# Altium integrated library NSC MiscPower.IntLib: 675 symbols (part 10 of 17)
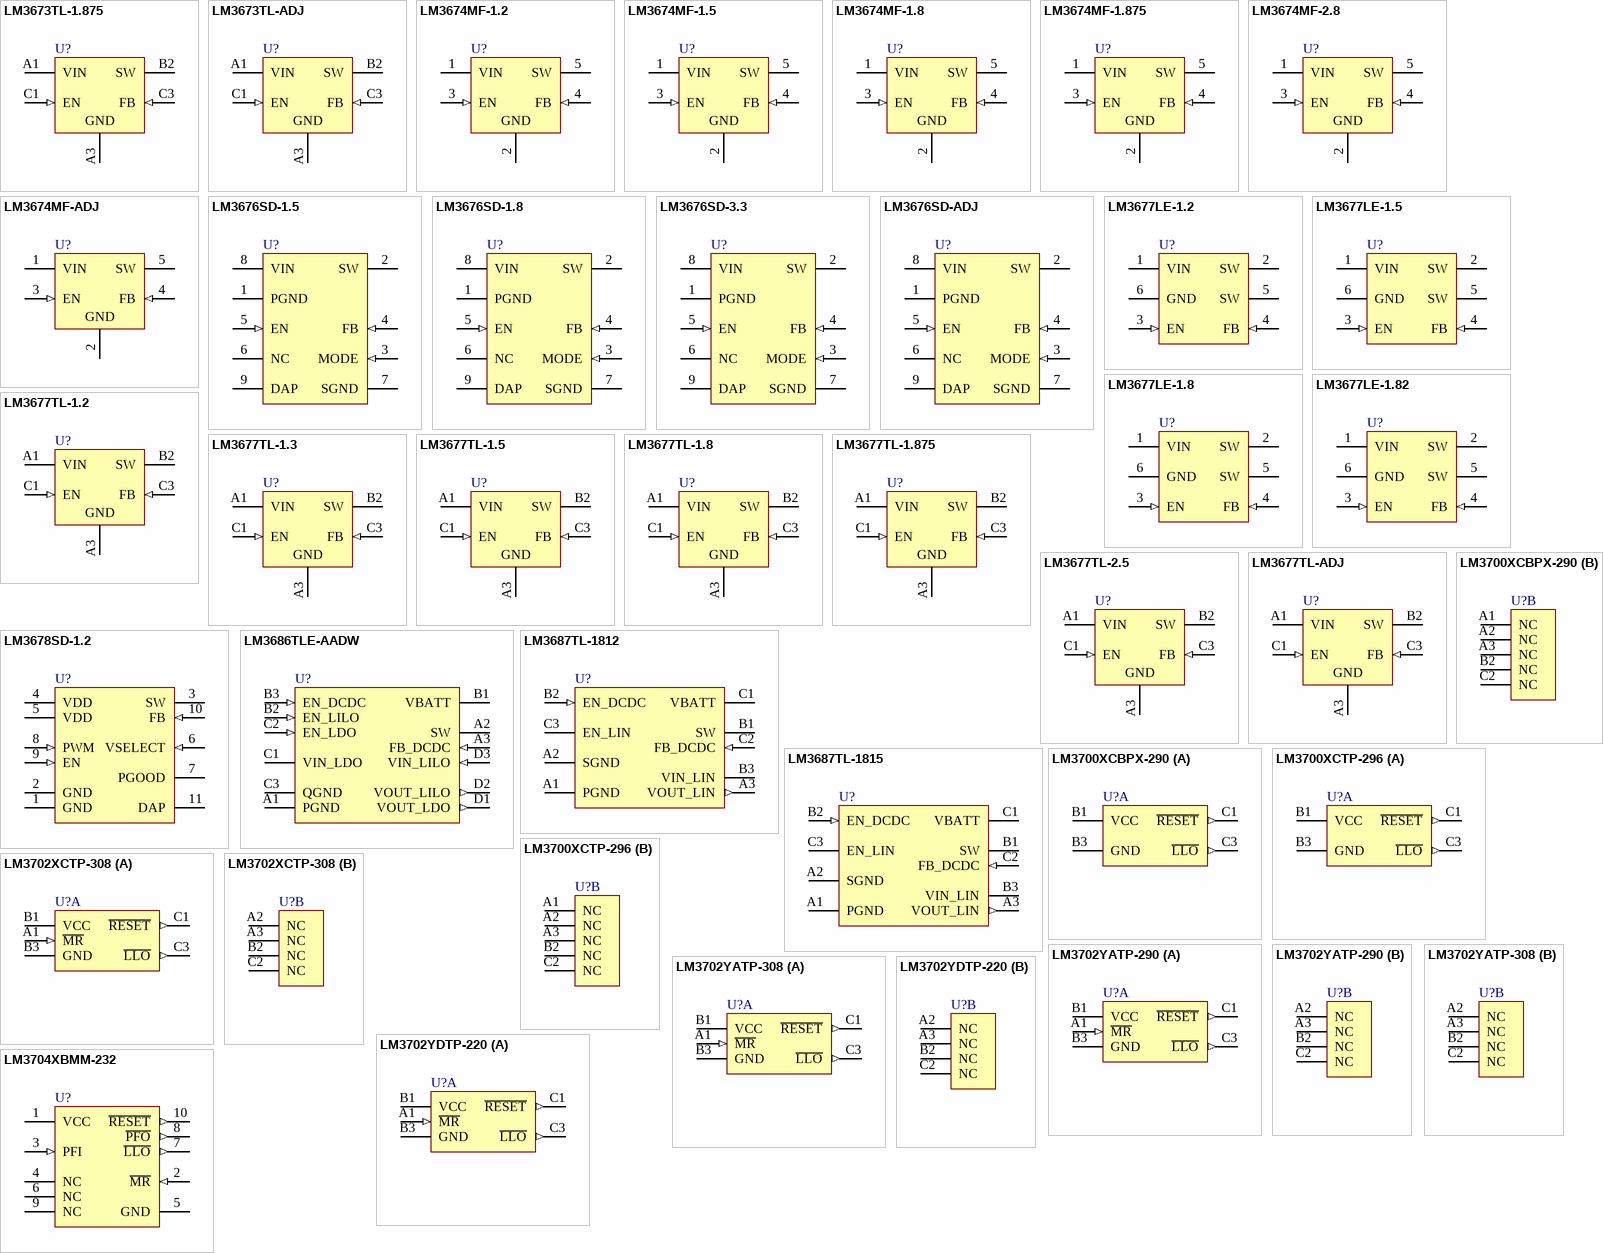
[diagram p31: symbols LM3673TL-1.875 to LM3704XBMM-232]

## LM3704XBMM-232
designator U?
Microprocessor Supervisory Circuits with Power Fail Input, Low Line Output and Manual Reset; PartNumber: LM3704XBMM-232; Manufacturer: National Semiconductor; CompType: MiscPower; PackageTopMarking: ZXTT*R66B; Published: 4-Dec-2008; DatasheetVersion: Sep-2003; PackageVersion: revB, Jul-2003; PackageReference: MUB10A; Publisher: Altium Limited; PackageDescription: Mini-SO, Molded, .118 x .118 x .034in Body, 10 Lead, .0197in Pitch; RoHS: Y; PinCount: 10; DigiKeyPartNumber: LM3704XBMM-232CT-ND; Code_JEDEC: MO-187-BA; ComponentLink1Description: LM3704 Datasheet; ComponentLink1URL: http://www.national.com/ds/LM/LM3704.pdf; ComponentLink2Description: LM3704 Web Page; ComponentLink2URL: http://www.national.com/pf/LM/LM3704.html; ComponentLink3Description: MUB10A Package Page; ComponentLink3URL: http://www.national.com/packaging/folders/mub10a.html
footprint MUB10A_N (TSSOP, 10-Leads, Body 3x3mm, Pitch 0.5mm, IPC Medium Density)
footprint MUB10A_L (TSSOP, 10-Leads, Body 3x3mm, Pitch 0.5mm, IPC High Density)
footprint MUB10A_M (TSSOP, 10-Leads, Body 3x3mm, Pitch 0.5mm, IPC Low Density)
pins: 1 VCC (power), 2 ~{MR} (in), 3 PFI (in), 4 NC, 5 GND (power), 6 NC, 7 ~{LLO} (out), 8 ~{PFO} (out), 9 NC, 10 ~{RESET} (out)

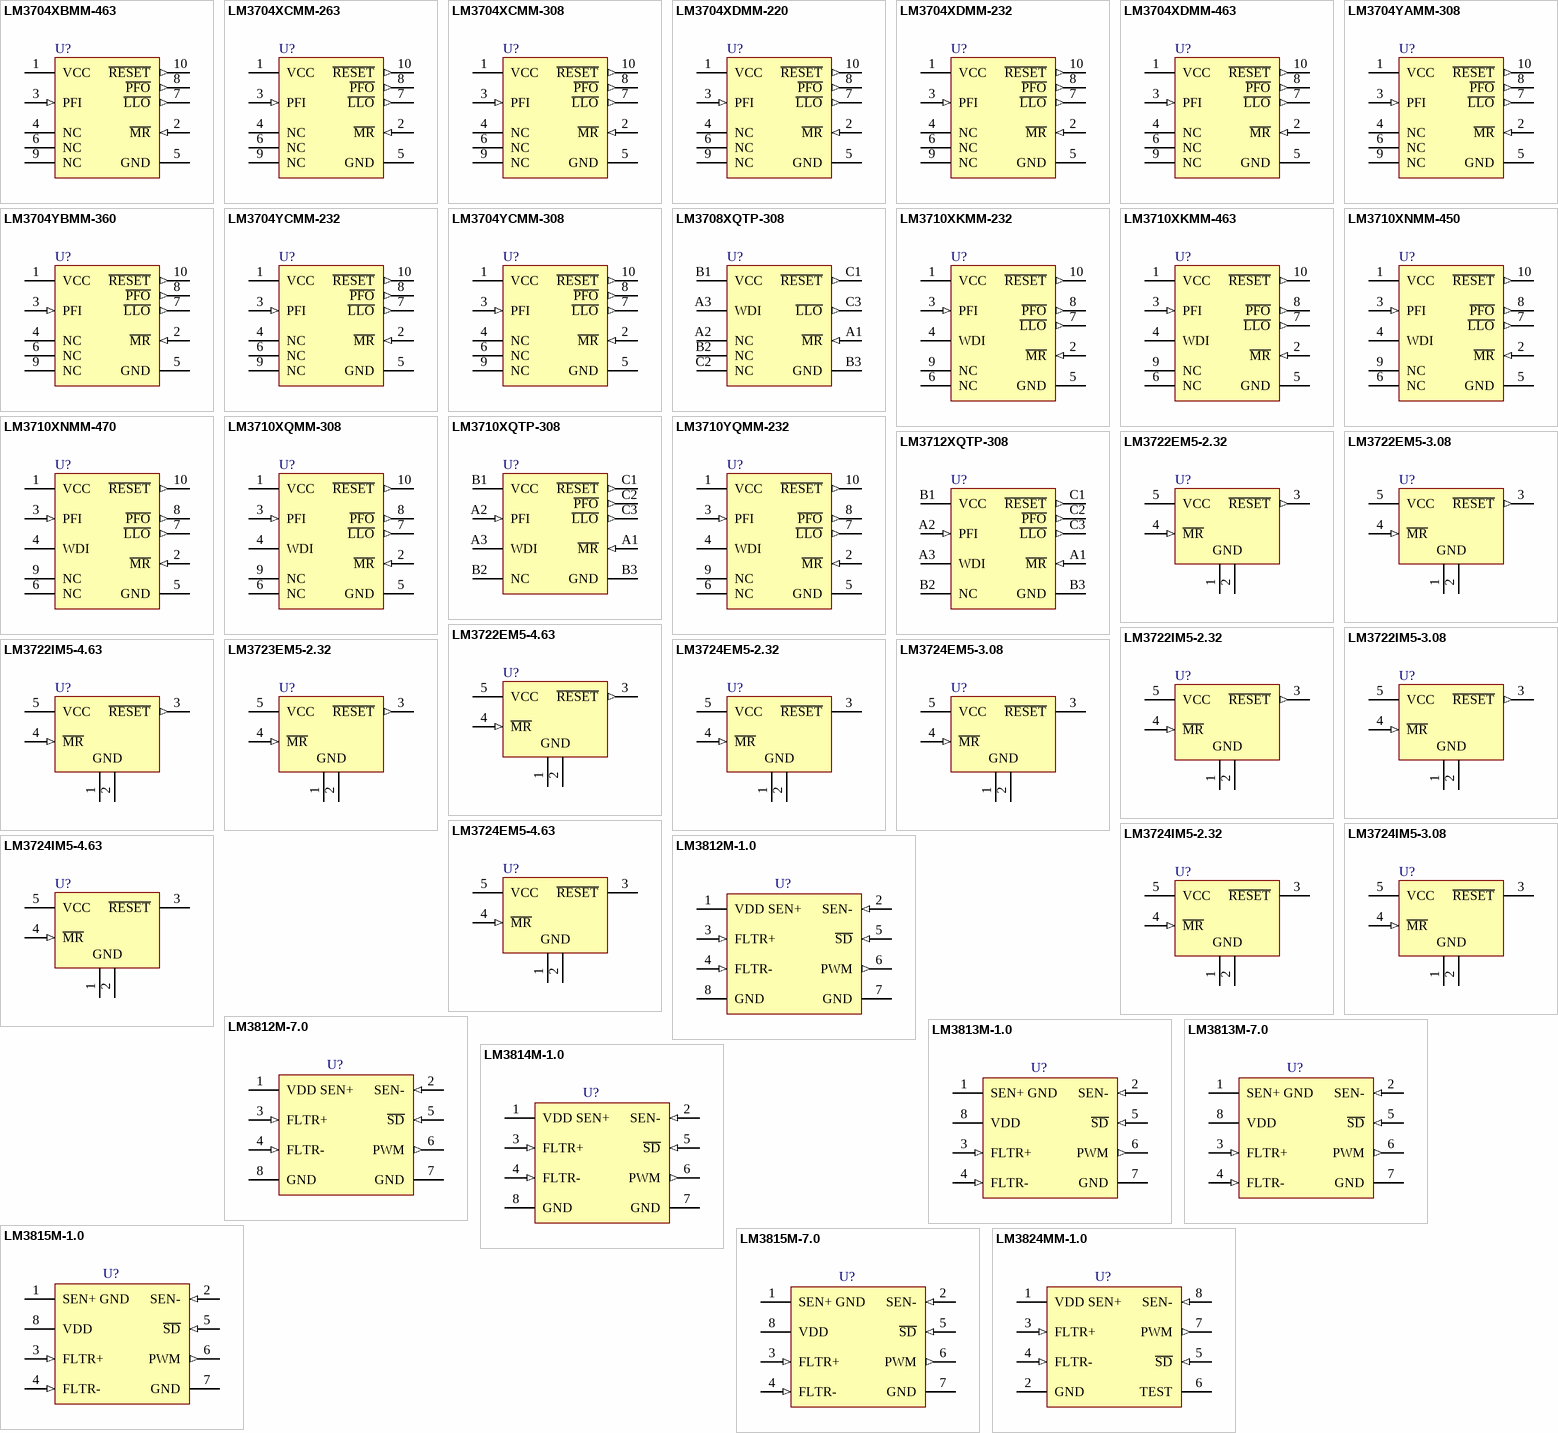
[diagram p11: symbols LM3704XBMM-463 to LM3824MM-1.0]

## LM3704XBMM-463
designator U?
Microprocessor Supervisory Circuits with Power Fail Input, Low Line Output and Manual Reset; PartNumber: LM3704XBMM-463; Manufacturer: National Semiconductor; CompType: MiscPower; PackageTopMarking: ZXTT*R27B; Published: 4-Dec-2008; DatasheetVersion: Sep-2003; PackageVersion: revB, Jul-2003; PackageReference: MUB10A; Publisher: Altium Limited; PackageDescription: Mini-SO, Molded, .118 x .118 x .034in Body, 10 Lead, .0197in Pitch; RoHS: Y; PinCount: 10; DigiKeyPartNumber: LM3704XBMM-463CT-ND; Code_JEDEC: MO-187-BA; ComponentLink1Description: LM3704 Datasheet; ComponentLink1URL: http://www.national.com/ds/LM/LM3704.pdf; ComponentLink2Description: LM3704 Web Page; ComponentLink2URL: http://www.national.com/pf/LM/LM3704.html; ComponentLink3Description: MUB10A Package Page; ComponentLink3URL: http://www.national.com/packaging/folders/mub10a.html
footprint MUB10A_N (TSSOP, 10-Leads, Body 3x3mm, Pitch 0.5mm, IPC Medium Density)
footprint MUB10A_L (TSSOP, 10-Leads, Body 3x3mm, Pitch 0.5mm, IPC High Density)
footprint MUB10A_M (TSSOP, 10-Leads, Body 3x3mm, Pitch 0.5mm, IPC Low Density)
pins: 1 VCC (power), 2 ~{MR} (in), 3 PFI (in), 4 NC, 5 GND (power), 6 NC, 7 ~{LLO} (out), 8 ~{PFO} (out), 9 NC, 10 ~{RESET} (out)

## LM3704XCMM-263
designator U?
Microprocessor Supervisory Circuits with Power Fail Input, Low Line Output and Manual Reset; PartNumber: LM3704XCMM-263; Manufacturer: National Semiconductor; CompType: MiscPower; PackageTopMarking: ZXTT*R79B; Published: 4-Dec-2008; DatasheetVersion: Sep-2003; PackageVersion: revB, Jul-2003; PackageReference: MUB10A; Publisher: Altium Limited; PackageDescription: Mini-SO, Molded, .118 x .118 x .034in Body, 10 Lead, .0197in Pitch; RoHS: Y; PinCount: 10; DigiKeyPartNumber: LM3704XCMM-263CT-ND; Code_JEDEC: MO-187-BA; ComponentLink1Description: LM3704 Datasheet; ComponentLink1URL: http://www.national.com/ds/LM/LM3704.pdf; ComponentLink2Description: LM3704 Web Page; ComponentLink2URL: http://www.national.com/pf/LM/LM3704.html; ComponentLink3Description: MUB10A Package Page; ComponentLink3URL: http://www.national.com/packaging/folders/mub10a.html
footprint MUB10A_N (TSSOP, 10-Leads, Body 3x3mm, Pitch 0.5mm, IPC Medium Density)
footprint MUB10A_L (TSSOP, 10-Leads, Body 3x3mm, Pitch 0.5mm, IPC High Density)
footprint MUB10A_M (TSSOP, 10-Leads, Body 3x3mm, Pitch 0.5mm, IPC Low Density)
pins: 1 VCC (power), 2 ~{MR} (in), 3 PFI (in), 4 NC, 5 GND (power), 6 NC, 7 ~{LLO} (out), 8 ~{PFO} (out), 9 NC, 10 ~{RESET} (out)

## LM3704XCMM-308
designator U?
Microprocessor Supervisory Circuits with Power Fail Input, Low Line Output and Manual Reset; PartNumber: LM3704XCMM-308; Manufacturer: National Semiconductor; CompType: MiscPower; PackageTopMarking: ZXTT*R35B; Published: 4-Dec-2008; DatasheetVersion: Sep-2003; PackageVersion: revB, Jul-2003; PackageReference: MUB10A; Publisher: Altium Limited; PackageDescription: Mini-SO, Molded, .118 x .118 x .034in Body, 10 Lead, .0197in Pitch; RoHS: Y; PinCount: 10; DigiKeyPartNumber: LM3704XCMM-308CT-ND; Code_JEDEC: MO-187-BA; ComponentLink1Description: LM3704 Datasheet; ComponentLink1URL: http://www.national.com/ds/LM/LM3704.pdf; ComponentLink2Description: LM3704 Web Page; ComponentLink2URL: http://www.national.com/pf/LM/LM3704.html; ComponentLink3Description: MUB10A Package Page; ComponentLink3URL: http://www.national.com/packaging/folders/mub10a.html
footprint MUB10A_N (TSSOP, 10-Leads, Body 3x3mm, Pitch 0.5mm, IPC Medium Density)
footprint MUB10A_L (TSSOP, 10-Leads, Body 3x3mm, Pitch 0.5mm, IPC High Density)
footprint MUB10A_M (TSSOP, 10-Leads, Body 3x3mm, Pitch 0.5mm, IPC Low Density)
pins: 1 VCC (power), 2 ~{MR} (in), 3 PFI (in), 4 NC, 5 GND (power), 6 NC, 7 ~{LLO} (out), 8 ~{PFO} (out), 9 NC, 10 ~{RESET} (out)

## LM3704XDMM-220
designator U?
Microprocessor Supervisory Circuits with Power Fail Input, Low Line Output and Manual Reset; PartNumber: LM3704XDMM-220; Manufacturer: National Semiconductor; CompType: MiscPower; PackageTopMarking: ZXTT*R65B; Published: 4-Dec-2008; DatasheetVersion: Sep-2003; PackageVersion: revB, Jul-2003; PackageReference: MUB10A; Publisher: Altium Limited; PackageDescription: Mini-SO, Molded, .118 x .118 x .034in Body, 10 Lead, .0197in Pitch; RoHS: Y; PinCount: 10; DigiKeyPartNumber: LM3704XDMM-220CT-ND; Code_JEDEC: MO-187-BA; ComponentLink1Description: LM3704 Datasheet; ComponentLink1URL: http://www.national.com/ds/LM/LM3704.pdf; ComponentLink2Description: LM3704 Web Page; ComponentLink2URL: http://www.national.com/pf/LM/LM3704.html; ComponentLink3Description: MUB10A Package Page; ComponentLink3URL: http://www.national.com/packaging/folders/mub10a.html
footprint MUB10A_N (TSSOP, 10-Leads, Body 3x3mm, Pitch 0.5mm, IPC Medium Density)
footprint MUB10A_L (TSSOP, 10-Leads, Body 3x3mm, Pitch 0.5mm, IPC High Density)
footprint MUB10A_M (TSSOP, 10-Leads, Body 3x3mm, Pitch 0.5mm, IPC Low Density)
pins: 1 VCC (power), 2 ~{MR} (in), 3 PFI (in), 4 NC, 5 GND (power), 6 NC, 7 ~{LLO} (out), 8 ~{PFO} (out), 9 NC, 10 ~{RESET} (out)

## LM3704XDMM-232
designator U?
Microprocessor Supervisory Circuits with Power Fail Input, Low Line Output and Manual Reset; PartNumber: LM3704XDMM-232; Manufacturer: National Semiconductor; CompType: MiscPower; PackageTopMarking: ZXTT*R67B; Published: 4-Dec-2008; DatasheetVersion: Sep-2003; PackageVersion: revB, Jul-2003; PackageReference: MUB10A; Publisher: Altium Limited; PackageDescription: Mini-SO, Molded, .118 x .118 x .034in Body, 10 Lead, .0197in Pitch; RoHS: N; PinCount: 10; DigiKeyPartNumber: LM3704XDMM-232CT-ND; Code_JEDEC: MO-187-BA; ComponentLink1Description: LM3704 Datasheet; ComponentLink1URL: http://www.national.com/ds/LM/LM3704.pdf; ComponentLink2Description: LM3704 Web Page; ComponentLink2URL: http://www.national.com/pf/LM/LM3704.html; ComponentLink3Description: MUB10A Package Page; ComponentLink3URL: http://www.national.com/packaging/folders/mub10a.html
footprint MUB10A_N (TSSOP, 10-Leads, Body 3x3mm, Pitch 0.5mm, IPC Medium Density)
footprint MUB10A_L (TSSOP, 10-Leads, Body 3x3mm, Pitch 0.5mm, IPC High Density)
footprint MUB10A_M (TSSOP, 10-Leads, Body 3x3mm, Pitch 0.5mm, IPC Low Density)
pins: 1 VCC (power), 2 ~{MR} (in), 3 PFI (in), 4 NC, 5 GND (power), 6 NC, 7 ~{LLO} (out), 8 ~{PFO} (out), 9 NC, 10 ~{RESET} (out)

## LM3704XDMM-463
designator U?
Microprocessor Supervisory Circuits with Power Fail Input, Low Line Output and Manual Reset; PartNumber: LM3704XDMM-463; Manufacturer: National Semiconductor; CompType: MiscPower; PackageTopMarking: ZXTT*R68B; Published: 4-Dec-2008; DatasheetVersion: Sep-2003; PackageVersion: revB, Jul-2003; PackageReference: MUB10A; Publisher: Altium Limited; PackageDescription: Mini-SO, Molded, .118 x .118 x .034in Body, 10 Lead, .0197in Pitch; RoHS: Y; PinCount: 10; DigiKeyPartNumber: LM3704XDMM-463CT-ND; Code_JEDEC: MO-187-BA; ComponentLink1Description: LM3704 Datasheet; ComponentLink1URL: http://www.national.com/ds/LM/LM3704.pdf; ComponentLink2Description: LM3704 Web Page; ComponentLink2URL: http://www.national.com/pf/LM/LM3704.html; ComponentLink3Description: MUB10A Package Page; ComponentLink3URL: http://www.national.com/packaging/folders/mub10a.html
footprint MUB10A_N (TSSOP, 10-Leads, Body 3x3mm, Pitch 0.5mm, IPC Medium Density)
footprint MUB10A_L (TSSOP, 10-Leads, Body 3x3mm, Pitch 0.5mm, IPC High Density)
footprint MUB10A_M (TSSOP, 10-Leads, Body 3x3mm, Pitch 0.5mm, IPC Low Density)
pins: 1 VCC (power), 2 ~{MR} (in), 3 PFI (in), 4 NC, 5 GND (power), 6 NC, 7 ~{LLO} (out), 8 ~{PFO} (out), 9 NC, 10 ~{RESET} (out)

## LM3704YAMM-308
designator U?
Microprocessor Supervisory Circuits with Power Fail Input, Low Line Output and Manual Reset; PartNumber: LM3704YAMM-308; Manufacturer: National Semiconductor; CompType: MiscPower; PackageTopMarking: ZXTT*R78B; Published: 4-Dec-2008; DatasheetVersion: Sep-2003; PackageVersion: revB, Jul-2003; PackageReference: MUB10A; Publisher: Altium Limited; PackageDescription: Mini-SO, Molded, .118 x .118 x .034in Body, 10 Lead, .0197in Pitch; RoHS: Y; PinCount: 10; DigiKeyPartNumber: LM3704YAMM-308CT-ND; Code_JEDEC: MO-187-BA; ComponentLink1Description: LM3704 Datasheet; ComponentLink1URL: http://www.national.com/ds/LM/LM3704.pdf; ComponentLink2Description: LM3704 Web Page; ComponentLink2URL: http://www.national.com/pf/LM/LM3704.html; ComponentLink3Description: MUB10A Package Page; ComponentLink3URL: http://www.national.com/packaging/folders/mub10a.html
footprint MUB10A_N (TSSOP, 10-Leads, Body 3x3mm, Pitch 0.5mm, IPC Medium Density)
footprint MUB10A_L (TSSOP, 10-Leads, Body 3x3mm, Pitch 0.5mm, IPC High Density)
footprint MUB10A_M (TSSOP, 10-Leads, Body 3x3mm, Pitch 0.5mm, IPC Low Density)
pins: 1 VCC (power), 2 ~{MR} (in), 3 PFI (in), 4 NC, 5 GND (power), 6 NC, 7 ~{LLO} (out), 8 ~{PFO} (out), 9 NC, 10 ~{RESET} (out)

## LM3704YBMM-360
designator U?
Microprocessor Supervisory Circuits with Power Fail Input, Low Line Output and Manual Reset; PartNumber: LM3704YBMM-360; Manufacturer: National Semiconductor; CompType: MiscPower; PackageTopMarking: ZXTT*R49B; Published: 4-Dec-2008; DatasheetVersion: Sep-2003; PackageVersion: revB, Jul-2003; PackageReference: MUB10A; Publisher: Altium Limited; PackageDescription: Mini-SO, Molded, .118 x .118 x .034in Body, 10 Lead, .0197in Pitch; RoHS: Y; PinCount: 10; DigiKeyPartNumber: LM3704YBMM-360CT-ND; Code_JEDEC: MO-187-BA; ComponentLink1Description: LM3704 Datasheet; ComponentLink1URL: http://www.national.com/ds/LM/LM3704.pdf; ComponentLink2Description: LM3704 Web Page; ComponentLink2URL: http://www.national.com/pf/LM/LM3704.html; ComponentLink3Description: MUB10A Package Page; ComponentLink3URL: http://www.national.com/packaging/folders/mub10a.html
footprint MUB10A_N (TSSOP, 10-Leads, Body 3x3mm, Pitch 0.5mm, IPC Medium Density)
footprint MUB10A_L (TSSOP, 10-Leads, Body 3x3mm, Pitch 0.5mm, IPC High Density)
footprint MUB10A_M (TSSOP, 10-Leads, Body 3x3mm, Pitch 0.5mm, IPC Low Density)
pins: 1 VCC (power), 2 ~{MR} (in), 3 PFI (in), 4 NC, 5 GND (power), 6 NC, 7 ~{LLO} (out), 8 ~{PFO} (out), 9 NC, 10 ~{RESET} (out)

## LM3704YCMM-232
designator U?
Microprocessor Supervisory Circuits with Power Fail Input, Low Line Output and Manual Reset; PartNumber: LM3704YCMM-232; Manufacturer: National Semiconductor; CompType: MiscPower; PackageTopMarking: ZXTT*R76B; Published: 4-Dec-2008; DatasheetVersion: Sep-2003; PackageVersion: revB, Jul-2003; PackageReference: MUB10A; Publisher: Altium Limited; PackageDescription: Mini-SO, Molded, .118 x .118 x .034in Body, 10 Lead, .0197in Pitch; RoHS: Y; PinCount: 10; DigiKeyPartNumber: LM3704YCMM-232CT-ND; Code_JEDEC: MO-187-BA; ComponentLink1Description: LM3704 Datasheet; ComponentLink1URL: http://www.national.com/ds/LM/LM3704.pdf; ComponentLink2Description: LM3704 Web Page; ComponentLink2URL: http://www.national.com/pf/LM/LM3704.html; ComponentLink3Description: MUB10A Package Page; ComponentLink3URL: http://www.national.com/packaging/folders/mub10a.html
footprint MUB10A_N (TSSOP, 10-Leads, Body 3x3mm, Pitch 0.5mm, IPC Medium Density)
footprint MUB10A_L (TSSOP, 10-Leads, Body 3x3mm, Pitch 0.5mm, IPC High Density)
footprint MUB10A_M (TSSOP, 10-Leads, Body 3x3mm, Pitch 0.5mm, IPC Low Density)
pins: 1 VCC (power), 2 ~{MR} (in), 3 PFI (in), 4 NC, 5 GND (power), 6 NC, 7 ~{LLO} (out), 8 ~{PFO} (out), 9 NC, 10 ~{RESET} (out)

## LM3704YCMM-308
designator U?
Microprocessor Supervisory Circuits with Power Fail Input, Low Line Output and Manual Reset; PartNumber: LM3704YCMM-308; Manufacturer: National Semiconductor; CompType: MiscPower; PackageTopMarking: ZXTT*R48B; Published: 4-Dec-2008; DatasheetVersion: Sep-2003; PackageVersion: revB, Jul-2003; PackageReference: MUB10A; Publisher: Altium Limited; PackageDescription: Mini-SO, Molded, .118 x .118 x .034in Body, 10 Lead, .0197in Pitch; RoHS: Y; PinCount: 10; DigiKeyPartNumber: LM3704YCMM-308CT-ND; Code_JEDEC: MO-187-BA; ComponentLink1Description: LM3704 Datasheet; ComponentLink1URL: http://www.national.com/ds/LM/LM3704.pdf; ComponentLink2Description: LM3704 Web Page; ComponentLink2URL: http://www.national.com/pf/LM/LM3704.html; ComponentLink3Description: MUB10A Package Page; ComponentLink3URL: http://www.national.com/packaging/folders/mub10a.html
footprint MUB10A_N (TSSOP, 10-Leads, Body 3x3mm, Pitch 0.5mm, IPC Medium Density)
footprint MUB10A_L (TSSOP, 10-Leads, Body 3x3mm, Pitch 0.5mm, IPC High Density)
footprint MUB10A_M (TSSOP, 10-Leads, Body 3x3mm, Pitch 0.5mm, IPC Low Density)
pins: 1 VCC (power), 2 ~{MR} (in), 3 PFI (in), 4 NC, 5 GND (power), 6 NC, 7 ~{LLO} (out), 8 ~{PFO} (out), 9 NC, 10 ~{RESET} (out)

## LM3708XQTP-308
designator U?
Microprocessor Supervisory Circuits with Low Line Output, Manual Reset and Watchdog Timer; PartNumber: LM3708XQTP-308; Manufacturer: National Semiconductor; CompType: MiscPower; PackageTopMarking: XVR*I 36; Published: 4-Dec-2008; DatasheetVersion: Jun-2002; PackageVersion: revA, Mar-2002; PackageReference: TPA09FFA; Publisher: Altium Limited; PackageDescription: Thin Micro SMD, 9 Bump, 0.5mm Pitch; RoHS: Y; PinCount: 9; DigiKeyPartNumber: LM3708XQTP-308CT-ND; Code_JEDEC: MO-211-BC; ComponentLink1Description: LM3708 Datasheet; ComponentLink1URL: http://www.national.com/ds/LM/LM3708.pdf; ComponentLink2Description: LM3708 Web Page; ComponentLink2URL: http://www.national.com/pf/LM/LM3708.html; ComponentLink3Description: TPA09FFA Package Page; ComponentLink3URL: http://www.national.com/packaging/folders/tpa09ffa.html
footprint TPA09FFA (Micro SMD, 9-Leads, Body 1.41x1.41mm, Pitch 0.5mm, NSC Recommended)
pins: A1 ~{MR} (in), A2 NC, A3 WDI, B1 VCC (power), B2 NC, B3 GND (power), C1 ~{RESET} (out), C2 NC, C3 ~{LLO} (out)

## LM3710XKMM-232
designator U?
Microprocessor Supervisory Circuits with Power Fail Input, Low Line Output, Manual Reset and Watchdog Timer; PartNumber: LM3710XKMM-232; Manufacturer: National Semiconductor; CompType: MiscPower; PackageTopMarking: ZXTT*R72B; Published: 4-Dec-2008; DatasheetVersion: Jan-2005; PackageVersion: revB, Jul-2003; PackageReference: MUB10A; Publisher: Altium Limited; PackageDescription: Mini-SO, Molded, .118 x .118 x .034in Body, 10 Lead, .0197in Pitch; RoHS: Y; PinCount: 10; DigiKeyPartNumber: LM3710XKMM-232CT-ND; Code_JEDEC: MO-187-BA; ComponentLink1Description: LM3710 Datasheet; ComponentLink1URL: http://www.national.com/ds/LM/LM3710.pdf; ComponentLink2Description: LM3710 Web Page; ComponentLink2URL: http://www.national.com/pf/LM/LM3710.html; ComponentLink3Description: MUB10A Package Page; ComponentLink3URL: http://www.national.com/packaging/folders/mub10a.html
footprint MUB10A_N (TSSOP, 10-Leads, Body 3x3mm, Pitch 0.5mm, IPC Medium Density)
footprint MUB10A_L (TSSOP, 10-Leads, Body 3x3mm, Pitch 0.5mm, IPC High Density)
footprint MUB10A_M (TSSOP, 10-Leads, Body 3x3mm, Pitch 0.5mm, IPC Low Density)
pins: 1 VCC (power), 2 ~{MR} (in), 3 PFI (in), 4 WDI, 5 GND (power), 6 NC, 7 ~{LLO} (out), 8 ~{PFO} (out), 9 NC, 10 ~{RESET} (out)

## LM3710XKMM-463
designator U?
Microprocessor Supervisory Circuits with Power Fail Input, Low Line Output, Manual Reset and Watchdog Timer; PartNumber: LM3710XKMM-463; Manufacturer: National Semiconductor; CompType: MiscPower; PackageTopMarking: ZXTT*R74B; Published: 4-Dec-2008; DatasheetVersion: Jan-2005; PackageVersion: revB, Jul-2003; PackageReference: MUB10A; Publisher: Altium Limited; PackageDescription: Mini-SO, Molded, .118 x .118 x .034in Body, 10 Lead, .0197in Pitch; RoHS: Y; PinCount: 10; DigiKeyPartNumber: LM3710XKMM-463CT-ND; Code_JEDEC: MO-187-BA; ComponentLink1Description: LM3710 Datasheet; ComponentLink1URL: http://www.national.com/ds/LM/LM3710.pdf; ComponentLink2Description: LM3710 Web Page; ComponentLink2URL: http://www.national.com/pf/LM/LM3710.html; ComponentLink3Description: MUB10A Package Page; ComponentLink3URL: http://www.national.com/packaging/folders/mub10a.html
footprint MUB10A_N (TSSOP, 10-Leads, Body 3x3mm, Pitch 0.5mm, IPC Medium Density)
footprint MUB10A_L (TSSOP, 10-Leads, Body 3x3mm, Pitch 0.5mm, IPC High Density)
footprint MUB10A_M (TSSOP, 10-Leads, Body 3x3mm, Pitch 0.5mm, IPC Low Density)
pins: 1 VCC (power), 2 ~{MR} (in), 3 PFI (in), 4 WDI, 5 GND (power), 6 NC, 7 ~{LLO} (out), 8 ~{PFO} (out), 9 NC, 10 ~{RESET} (out)

## LM3710XNMM-450
designator U?
Microprocessor Supervisory Circuits with Power Fail Input, Low Line Output, Manual Reset and Watchdog Timer; PartNumber: LM3710XNMM-450; Manufacturer: National Semiconductor; CompType: MiscPower; PackageTopMarking: ZXTT*R84B; Published: 4-Dec-2008; DatasheetVersion: Jan-2005; PackageVersion: revB, Jul-2003; PackageReference: MUB10A; Publisher: Altium Limited; PackageDescription: Mini-SO, Molded, .118 x .118 x .034in Body, 10 Lead, .0197in Pitch; RoHS: Y; PinCount: 10; DigiKeyPartNumber: LM3710XNMM-450CT-ND; Code_JEDEC: MO-187-BA; ComponentLink1Description: LM3710 Datasheet; ComponentLink1URL: http://www.national.com/ds/LM/LM3710.pdf; ComponentLink2Description: LM3710 Web Page; ComponentLink2URL: http://www.national.com/pf/LM/LM3710.html; ComponentLink3Description: MUB10A Package Page; ComponentLink3URL: http://www.national.com/packaging/folders/mub10a.html
footprint MUB10A_N (TSSOP, 10-Leads, Body 3x3mm, Pitch 0.5mm, IPC Medium Density)
footprint MUB10A_L (TSSOP, 10-Leads, Body 3x3mm, Pitch 0.5mm, IPC High Density)
footprint MUB10A_M (TSSOP, 10-Leads, Body 3x3mm, Pitch 0.5mm, IPC Low Density)
pins: 1 VCC (power), 2 ~{MR} (in), 3 PFI (in), 4 WDI, 5 GND (power), 6 NC, 7 ~{LLO} (out), 8 ~{PFO} (out), 9 NC, 10 ~{RESET} (out)

## LM3710XNMM-470
designator U?
Microprocessor Supervisory Circuits with Power Fail Input, Low Line Output, Manual Reset and Watchdog Timer; PartNumber: LM3710XNMM-470; Manufacturer: National Semiconductor; CompType: MiscPower; PackageTopMarking: ZXTT*R83B; Published: 4-Dec-2008; DatasheetVersion: Jan-2005; PackageVersion: revB, Jul-2003; PackageReference: MUB10A; Publisher: Altium Limited; PackageDescription: Mini-SO, Molded, .118 x .118 x .034in Body, 10 Lead, .0197in Pitch; RoHS: Y; PinCount: 10; DigiKeyPartNumber: LM3710XNMM-470CT-ND; Code_JEDEC: MO-187-BA; ComponentLink1Description: LM3710 Datasheet; ComponentLink1URL: http://www.national.com/ds/LM/LM3710.pdf; ComponentLink2Description: LM3710 Web Page; ComponentLink2URL: http://www.national.com/pf/LM/LM3710.html; ComponentLink3Description: MUB10A Package Page; ComponentLink3URL: http://www.national.com/packaging/folders/mub10a.html
footprint MUB10A_N (TSSOP, 10-Leads, Body 3x3mm, Pitch 0.5mm, IPC Medium Density)
footprint MUB10A_L (TSSOP, 10-Leads, Body 3x3mm, Pitch 0.5mm, IPC High Density)
footprint MUB10A_M (TSSOP, 10-Leads, Body 3x3mm, Pitch 0.5mm, IPC Low Density)
pins: 1 VCC (power), 2 ~{MR} (in), 3 PFI (in), 4 WDI, 5 GND (power), 6 NC, 7 ~{LLO} (out), 8 ~{PFO} (out), 9 NC, 10 ~{RESET} (out)

## LM3710XQMM-308
designator U?
Microprocessor Supervisory Circuits with Power Fail Input, Low Line Output, Manual Reset and Watchdog Timer; PartNumber: LM3710XQMM-308; Manufacturer: National Semiconductor; CompType: MiscPower; PackageTopMarking: ZXTT*R37B; Published: 4-Dec-2008; DatasheetVersion: Jan-2005; PackageVersion: revB, Jul-2003; PackageReference: MUB10A; Publisher: Altium Limited; PackageDescription: Mini-SO, Molded, .118 x .118 x .034in Body, 10 Lead, .0197in Pitch; RoHS: Y; PinCount: 10; DigiKeyPartNumber: LM3710XQMM-308CT-ND; Code_JEDEC: MO-187-BA; ComponentLink1Description: LM3710 Datasheet; ComponentLink1URL: http://www.national.com/ds/LM/LM3710.pdf; ComponentLink2Description: LM3710 Web Page; ComponentLink2URL: http://www.national.com/pf/LM/LM3710.html; ComponentLink3Description: MUB10A Package Page; ComponentLink3URL: http://www.national.com/packaging/folders/mub10a.html
footprint MUB10A_N (TSSOP, 10-Leads, Body 3x3mm, Pitch 0.5mm, IPC Medium Density)
footprint MUB10A_L (TSSOP, 10-Leads, Body 3x3mm, Pitch 0.5mm, IPC High Density)
footprint MUB10A_M (TSSOP, 10-Leads, Body 3x3mm, Pitch 0.5mm, IPC Low Density)
pins: 1 VCC (power), 2 ~{MR} (in), 3 PFI (in), 4 WDI, 5 GND (power), 6 NC, 7 ~{LLO} (out), 8 ~{PFO} (out), 9 NC, 10 ~{RESET} (out)

## LM3710XQTP-308
designator U?
Microprocessor Supervisory Circuits with Power Fail Input, Low Line Output, Manual Reset and Watchdog Timer; PartNumber: LM3710XQTP-308; Manufacturer: National Semiconductor; CompType: MiscPower; PackageTopMarking: XVR*I 40; Published: 4-Dec-2008; DatasheetVersion: Jan-2005; PackageVersion: revA, Mar-2002; PackageReference: TPA09FFA; Publisher: Altium Limited; PackageDescription: Thin Micro SMD, 9 Bump, 0.5mm Pitch; RoHS: Y; PinCount: 9; Code_JEDEC: MO-211-BC; ComponentLink1Description: LM3710 Datasheet; ComponentLink1URL: http://www.national.com/ds/LM/LM3710.pdf; ComponentLink2Description: LM3710 Web Page; ComponentLink2URL: http://www.national.com/pf/LM/LM3710.html; ComponentLink3Description: TPA09FFA Package Page; ComponentLink3URL: http://www.national.com/packaging/folders/tpa09ffa.html
footprint TPA09FFA (Micro SMD, 9-Leads, Body 1.41x1.41mm, Pitch 0.5mm, NSC Recommended)
pins: A1 ~{MR} (in), A2 PFI (in), A3 WDI, B1 VCC (power), B2 NC, B3 GND (power), C1 ~{RESET} (out), C2 ~{PFO} (out), C3 ~{LLO} (out)

## LM3710YQMM-232
designator U?
Microprocessor Supervisory Circuits with Power Fail Input, Low Line Output, Manual Reset and Watchdog Timer; PartNumber: LM3710YQMM-232; Manufacturer: National Semiconductor; CompType: MiscPower; PackageTopMarking: ZXTT*R77B; Published: 4-Dec-2008; DatasheetVersion: Jan-2005; PackageVersion: revB, Jul-2003; PackageReference: MUB10A; Publisher: Altium Limited; PackageDescription: Mini-SO, Molded, .118 x .118 x .034in Body, 10 Lead, .0197in Pitch; RoHS: O; PinCount: 10; DigiKeyPartNumber: LM3710YQMM-232CT-ND; Code_JEDEC: MO-187-BA; ComponentLink1Description: LM3710 Datasheet; ComponentLink1URL: http://www.national.com/ds/LM/LM3710.pdf; ComponentLink2Description: LM3710 Web Page; ComponentLink2URL: http://www.national.com/pf/LM/LM3710.html; ComponentLink3Description: MUB10A Package Page; ComponentLink3URL: http://www.national.com/packaging/folders/mub10a.html
footprint MUB10A_N (TSSOP, 10-Leads, Body 3x3mm, Pitch 0.5mm, IPC Medium Density)
footprint MUB10A_L (TSSOP, 10-Leads, Body 3x3mm, Pitch 0.5mm, IPC High Density)
footprint MUB10A_M (TSSOP, 10-Leads, Body 3x3mm, Pitch 0.5mm, IPC Low Density)
pins: 1 VCC (power), 2 ~{MR} (in), 3 PFI (in), 4 WDI, 5 GND (power), 6 NC, 7 ~{LLO} (out), 8 ~{PFO} (out), 9 NC, 10 ~{RESET} (out)

## LM3712XQTP-308
designator U?
Microprocessor Supervisory Circuits with Separate Watchdog Timer Output, Power Fail Input and Manual Reset; PartNumber: LM3712XQTP-308; Manufacturer: National Semiconductor; CompType: MiscPower; PackageTopMarking: XVR*I 41; Published: 4-Dec-2008; DatasheetVersion: Jan-2005; PackageVersion: revA, Mar-2002; PackageReference: TPA09FFA; Publisher: Altium Limited; PackageDescription: Thin Micro SMD, 9 Bump, 0.5mm Pitch; RoHS: Y; PinCount: 9; Code_JEDEC: MO-211-BC; ComponentLink1Description: LM3712 Datasheet; ComponentLink1URL: http://www.national.com/ds/LM/LM3710.pdf; ComponentLink2Description: LM3712 Web Page; ComponentLink2URL: http://www.national.com/pf/LM/LM3712.html; ComponentLink3Description: TPA09FFA Package Page; ComponentLink3URL: http://www.national.com/packaging/folders/tpa09ffa.html
footprint TPA09FFA (Micro SMD, 9-Leads, Body 1.41x1.41mm, Pitch 0.5mm, NSC Recommended)
pins: A1 ~{MR} (in), A2 PFI (in), A3 WDI, B1 VCC (power), B2 NC, B3 GND (power), C1 ~{RESET} (out), C2 ~{PFO} (out), C3 ~{LLO} (out)

## LM3722EM5-2.32
designator U?
5-Pin Microprocessor Reset Circuits; PartNumber: LM3722EM5-2.32; Manufacturer: National Semiconductor; CompType: MiscPower; PackageTopMarking: R58B*XTT; Published: 4-Dec-2008; DatasheetVersion: Jul-2007; PackageVersion: revD, Aug-2008; PackageReference: MF05A; Publisher: Altium Limited; PackageDescription: Molded SOT-23, .115 x .063 x .040 in Body, 5 Lead, .0375 in Pitch; RoHS: Y; PinCount: 5; DigiKeyPartNumber: LM3722EM5-2.32CT-ND; Code_IPC: SOT23-5; ComponentLink1Description: LM3722 Datasheet; ComponentLink1URL: http://www.national.com/ds/LM/LM3722.pdf; ComponentLink2Description: LM3722 Web Page; ComponentLink2URL: http://www.national.com/pf/LM/LM3722.html; ComponentLink3Description: MF05A Package Page; ComponentLink3URL: http://www.national.com/packaging/folders/mf05a.html
footprint MF05A_N (SOT23, 5-Leads, Body 2.9x1.6mm, Pitch 0.95mm, Lead Span 2.8mm, IPC Medium Density)
footprint MF05A_L (SOT23, 5-Leads, Body 2.9x1.6mm, Pitch 0.95mm, Lead Span 2.8mm, IPC High Density)
footprint MF05A_M (SOT23, 5-Leads, Body 2.9x1.6mm, Pitch 0.95mm, Lead Span 2.8mm, IPC Low Density)
pins: 1 GND (power), 2 GND (power), 3 ~{RESET} (out), 4 ~{MR} (in), 5 VCC (power)

## LM3722EM5-3.08
designator U?
5-Pin Microprocessor Reset Circuits; PartNumber: LM3722EM5-3.08; Manufacturer: National Semiconductor; CompType: MiscPower; PackageTopMarking: R57B*XTT; Published: 4-Dec-2008; DatasheetVersion: Jul-2007; PackageVersion: revD, Aug-2008; PackageReference: MF05A; Publisher: Altium Limited; PackageDescription: Molded SOT-23, .115 x .063 x .040 in Body, 5 Lead, .0375 in Pitch; RoHS: Y; PinCount: 5; DigiKeyPartNumber: LM3722EM5-3.08CT-ND; Code_IPC: SOT23-5; ComponentLink1Description: LM3722 Datasheet; ComponentLink1URL: http://www.national.com/ds/LM/LM3722.pdf; ComponentLink2Description: LM3722 Web Page; ComponentLink2URL: http://www.national.com/pf/LM/LM3722.html; ComponentLink3Description: MF05A Package Page; ComponentLink3URL: http://www.national.com/packaging/folders/mf05a.html
footprint MF05A_N (SOT23, 5-Leads, Body 2.9x1.6mm, Pitch 0.95mm, Lead Span 2.8mm, IPC Medium Density)
footprint MF05A_L (SOT23, 5-Leads, Body 2.9x1.6mm, Pitch 0.95mm, Lead Span 2.8mm, IPC High Density)
footprint MF05A_M (SOT23, 5-Leads, Body 2.9x1.6mm, Pitch 0.95mm, Lead Span 2.8mm, IPC Low Density)
pins: 1 GND (power), 2 GND (power), 3 ~{RESET} (out), 4 ~{MR} (in), 5 VCC (power)

## LM3722EM5-4.63
designator U?
5-Pin Microprocessor Reset Circuits; PartNumber: LM3722EM5-4.63; Manufacturer: National Semiconductor; CompType: MiscPower; PackageTopMarking: R56B*XTT; Published: 4-Dec-2008; DatasheetVersion: Jul-2007; PackageVersion: revD, Aug-2008; PackageReference: MF05A; Publisher: Altium Limited; PackageDescription: Molded SOT-23, .115 x .063 x .040 in Body, 5 Lead, .0375 in Pitch; RoHS: Y; PinCount: 5; DigiKeyPartNumber: LM3722EM5-4.63CT-ND; Code_IPC: SOT23-5; ComponentLink1Description: LM3722 Datasheet; ComponentLink1URL: http://www.national.com/ds/LM/LM3722.pdf; ComponentLink2Description: LM3722 Web Page; ComponentLink2URL: http://www.national.com/pf/LM/LM3722.html; ComponentLink3Description: MF05A Package Page; ComponentLink3URL: http://www.national.com/packaging/folders/mf05a.html
footprint MF05A_N (SOT23, 5-Leads, Body 2.9x1.6mm, Pitch 0.95mm, Lead Span 2.8mm, IPC Medium Density)
footprint MF05A_L (SOT23, 5-Leads, Body 2.9x1.6mm, Pitch 0.95mm, Lead Span 2.8mm, IPC High Density)
footprint MF05A_M (SOT23, 5-Leads, Body 2.9x1.6mm, Pitch 0.95mm, Lead Span 2.8mm, IPC Low Density)
pins: 1 GND (power), 2 GND (power), 3 ~{RESET} (out), 4 ~{MR} (in), 5 VCC (power)

## LM3722IM5-2.32
designator U?
5-Pin Microprocessor Reset Circuits; PartNumber: LM3722IM5-2.32; Manufacturer: National Semiconductor; CompType: MiscPower; PackageTopMarking: R34B*XTT; Published: 4-Dec-2008; DatasheetVersion: Jul-2007; PackageVersion: revD, Aug-2008; PackageReference: MF05A; Publisher: Altium Limited; PackageDescription: Molded SOT-23, .115 x .063 x .040 in Body, 5 Lead, .0375 in Pitch; RoHS: Y; PinCount: 5; DigiKeyPartNumber: LM3722IM5-2.32CT-ND; Code_IPC: SOT23-5; ComponentLink1Description: LM3722 Datasheet; ComponentLink1URL: http://www.national.com/ds/LM/LM3722.pdf; ComponentLink2Description: LM3722 Web Page; ComponentLink2URL: http://www.national.com/pf/LM/LM3722.html; ComponentLink3Description: MF05A Package Page; ComponentLink3URL: http://www.national.com/packaging/folders/mf05a.html
footprint MF05A_N (SOT23, 5-Leads, Body 2.9x1.6mm, Pitch 0.95mm, Lead Span 2.8mm, IPC Medium Density)
footprint MF05A_L (SOT23, 5-Leads, Body 2.9x1.6mm, Pitch 0.95mm, Lead Span 2.8mm, IPC High Density)
footprint MF05A_M (SOT23, 5-Leads, Body 2.9x1.6mm, Pitch 0.95mm, Lead Span 2.8mm, IPC Low Density)
pins: 1 GND (power), 2 GND (power), 3 ~{RESET} (out), 4 ~{MR} (in), 5 VCC (power)

## LM3722IM5-3.08
designator U?
5-Pin Microprocessor Reset Circuits; PartNumber: LM3722IM5-3.08; Manufacturer: National Semiconductor; CompType: MiscPower; PackageTopMarking: R41B*XTT; Published: 4-Dec-2008; DatasheetVersion: Jul-2007; PackageVersion: revD, Aug-2008; PackageReference: MF05A; Publisher: Altium Limited; PackageDescription: Molded SOT-23, .115 x .063 x .040 in Body, 5 Lead, .0375 in Pitch; RoHS: Y; PinCount: 5; DigiKeyPartNumber: LM3722IM5-3.08CT-ND; Code_IPC: SOT23-5; ComponentLink1Description: LM3722 Datasheet; ComponentLink1URL: http://www.national.com/ds/LM/LM3722.pdf; ComponentLink2Description: LM3722 Web Page; ComponentLink2URL: http://www.national.com/pf/LM/LM3722.html; ComponentLink3Description: MF05A Package Page; ComponentLink3URL: http://www.national.com/packaging/folders/mf05a.html
footprint MF05A_N (SOT23, 5-Leads, Body 2.9x1.6mm, Pitch 0.95mm, Lead Span 2.8mm, IPC Medium Density)
footprint MF05A_L (SOT23, 5-Leads, Body 2.9x1.6mm, Pitch 0.95mm, Lead Span 2.8mm, IPC High Density)
footprint MF05A_M (SOT23, 5-Leads, Body 2.9x1.6mm, Pitch 0.95mm, Lead Span 2.8mm, IPC Low Density)
pins: 1 GND (power), 2 GND (power), 3 ~{RESET} (out), 4 ~{MR} (in), 5 VCC (power)

## LM3722IM5-4.63
designator U?
5-Pin Microprocessor Reset Circuits; PartNumber: LM3722IM5-4.63; Manufacturer: National Semiconductor; CompType: MiscPower; PackageTopMarking: R43B*XTT; Published: 4-Dec-2008; DatasheetVersion: Jul-2007; PackageVersion: revD, Aug-2008; PackageReference: MF05A; Publisher: Altium Limited; PackageDescription: Molded SOT-23, .115 x .063 x .040 in Body, 5 Lead, .0375 in Pitch; RoHS: Y; PinCount: 5; DigiKeyPartNumber: LM3722IM5-4.63CT-ND; Code_IPC: SOT23-5; ComponentLink1Description: LM3722 Datasheet; ComponentLink1URL: http://www.national.com/ds/LM/LM3722.pdf; ComponentLink2Description: LM3722 Web Page; ComponentLink2URL: http://www.national.com/pf/LM/LM3722.html; ComponentLink3Description: MF05A Package Page; ComponentLink3URL: http://www.national.com/packaging/folders/mf05a.html
footprint MF05A_N (SOT23, 5-Leads, Body 2.9x1.6mm, Pitch 0.95mm, Lead Span 2.8mm, IPC Medium Density)
footprint MF05A_L (SOT23, 5-Leads, Body 2.9x1.6mm, Pitch 0.95mm, Lead Span 2.8mm, IPC High Density)
footprint MF05A_M (SOT23, 5-Leads, Body 2.9x1.6mm, Pitch 0.95mm, Lead Span 2.8mm, IPC Low Density)
pins: 1 GND (power), 2 GND (power), 3 ~{RESET} (out), 4 ~{MR} (in), 5 VCC (power)

## LM3723EM5-2.32
designator U?
5-Pin Microprocessor Reset Circuits; PartNumber: LM3723EM5-2.32; Manufacturer: National Semiconductor; CompType: MiscPower; PackageTopMarking: R61B*XTT; Published: 4-Dec-2008; DatasheetVersion: Jul-2007; PackageVersion: revD, Aug-2008; PackageReference: MF05A; Publisher: Altium Limited; PackageDescription: Molded SOT-23, .115 x .063 x .040 in Body, 5 Lead, .0375 in Pitch; RoHS: Y; PinCount: 5; DigiKeyPartNumber: LM3723EM5-2.32CT-ND; Code_IPC: SOT23-5; ComponentLink1Description: LM3723 Datasheet; ComponentLink1URL: http://www.national.com/ds/LM/LM3723.pdf; ComponentLink2Description: LM3723 Web Page; ComponentLink2URL: http://www.national.com/pf/LM/LM3723.html; ComponentLink3Description: MF05A Package Page; ComponentLink3URL: http://www.national.com/packaging/folders/mf05a.html
footprint MF05A_N (SOT23, 5-Leads, Body 2.9x1.6mm, Pitch 0.95mm, Lead Span 2.8mm, IPC Medium Density)
footprint MF05A_L (SOT23, 5-Leads, Body 2.9x1.6mm, Pitch 0.95mm, Lead Span 2.8mm, IPC High Density)
footprint MF05A_M (SOT23, 5-Leads, Body 2.9x1.6mm, Pitch 0.95mm, Lead Span 2.8mm, IPC Low Density)
pins: 1 GND (power), 2 GND (power), 3 ~{RESET} (out), 4 ~{MR} (in), 5 VCC (power)

## LM3724EM5-2.32
designator U?
5-Pin Microprocessor Reset Circuits; PartNumber: LM3724EM5-2.32; Manufacturer: National Semiconductor; CompType: MiscPower; PackageTopMarking: R64B*XTT; Published: 4-Dec-2008; DatasheetVersion: Jul-2007; PackageVersion: revD, Aug-2008; PackageReference: MF05A; Publisher: Altium Limited; PackageDescription: Molded SOT-23, .115 x .063 x .040 in Body, 5 Lead, .0375 in Pitch; RoHS: Y; PinCount: 5; DigiKeyPartNumber: LM3724EM5-2.32CT-ND; Code_IPC: SOT23-5; ComponentLink1Description: LM3724 Datasheet; ComponentLink1URL: http://www.national.com/ds/LM/LM3724.pdf; ComponentLink2Description: LM3724 Web Page; ComponentLink2URL: http://www.national.com/pf/LM/LM3724.html; ComponentLink3Description: MF05A Package Page; ComponentLink3URL: http://www.national.com/packaging/folders/mf05a.html
footprint MF05A_N (SOT23, 5-Leads, Body 2.9x1.6mm, Pitch 0.95mm, Lead Span 2.8mm, IPC Medium Density)
footprint MF05A_L (SOT23, 5-Leads, Body 2.9x1.6mm, Pitch 0.95mm, Lead Span 2.8mm, IPC High Density)
footprint MF05A_M (SOT23, 5-Leads, Body 2.9x1.6mm, Pitch 0.95mm, Lead Span 2.8mm, IPC Low Density)
pins: 1 GND (power), 2 GND (power), 3 ~{RESET} (oc), 4 ~{MR} (in), 5 VCC (power)

## LM3724EM5-3.08
designator U?
5-Pin Microprocessor Reset Circuits; PartNumber: LM3724EM5-3.08; Manufacturer: National Semiconductor; CompType: MiscPower; PackageTopMarking: R63B*XTT; Published: 4-Dec-2008; DatasheetVersion: Jul-2007; PackageVersion: revD, Aug-2008; PackageReference: MF05A; Publisher: Altium Limited; PackageDescription: Molded SOT-23, .115 x .063 x .040 in Body, 5 Lead, .0375 in Pitch; RoHS: Y; PinCount: 5; DigiKeyPartNumber: LM3724EM5-3.08CT-ND; Code_IPC: SOT23-5; ComponentLink1Description: LM3724 Datasheet; ComponentLink1URL: http://www.national.com/ds/LM/LM3724.pdf; ComponentLink2Description: LM3724 Web Page; ComponentLink2URL: http://www.national.com/pf/LM/LM3724.html; ComponentLink3Description: MF05A Package Page; ComponentLink3URL: http://www.national.com/packaging/folders/mf05a.html
footprint MF05A_N (SOT23, 5-Leads, Body 2.9x1.6mm, Pitch 0.95mm, Lead Span 2.8mm, IPC Medium Density)
footprint MF05A_L (SOT23, 5-Leads, Body 2.9x1.6mm, Pitch 0.95mm, Lead Span 2.8mm, IPC High Density)
footprint MF05A_M (SOT23, 5-Leads, Body 2.9x1.6mm, Pitch 0.95mm, Lead Span 2.8mm, IPC Low Density)
pins: 1 GND (power), 2 GND (power), 3 ~{RESET} (oc), 4 ~{MR} (in), 5 VCC (power)

## LM3724EM5-4.63
designator U?
5-Pin Microprocessor Reset Circuits; PartNumber: LM3724EM5-4.63; Manufacturer: National Semiconductor; CompType: MiscPower; PackageTopMarking: R62B*XTT; Published: 4-Dec-2008; DatasheetVersion: Jul-2007; PackageVersion: revD, Aug-2008; PackageReference: MF05A; Publisher: Altium Limited; PackageDescription: Molded SOT-23, .115 x .063 x .040 in Body, 5 Lead, .0375 in Pitch; RoHS: Y; PinCount: 5; DigiKeyPartNumber: LM3724EM5-4.63CT-ND; Code_IPC: SOT23-5; ComponentLink1Description: LM3724 Datasheet; ComponentLink1URL: http://www.national.com/ds/LM/LM3724.pdf; ComponentLink2Description: LM3724 Web Page; ComponentLink2URL: http://www.national.com/pf/LM/LM3724.html; ComponentLink3Description: MF05A Package Page; ComponentLink3URL: http://www.national.com/packaging/folders/mf05a.html
footprint MF05A_N (SOT23, 5-Leads, Body 2.9x1.6mm, Pitch 0.95mm, Lead Span 2.8mm, IPC Medium Density)
footprint MF05A_L (SOT23, 5-Leads, Body 2.9x1.6mm, Pitch 0.95mm, Lead Span 2.8mm, IPC High Density)
footprint MF05A_M (SOT23, 5-Leads, Body 2.9x1.6mm, Pitch 0.95mm, Lead Span 2.8mm, IPC Low Density)
pins: 1 GND (power), 2 GND (power), 3 ~{RESET} (oc), 4 ~{MR} (in), 5 VCC (power)

## LM3724IM5-2.32
designator U?
5-Pin Microprocessor Reset Circuits; PartNumber: LM3724IM5-2.32; Manufacturer: National Semiconductor; CompType: MiscPower; PackageTopMarking: R50B*XTT; Published: 4-Dec-2008; DatasheetVersion: Jul-2007; PackageVersion: revD, Aug-2008; PackageReference: MF05A; Publisher: Altium Limited; PackageDescription: Molded SOT-23, .115 x .063 x .040 in Body, 5 Lead, .0375 in Pitch; RoHS: Y; PinCount: 5; DigiKeyPartNumber: LM3724IM5-2.32CT-ND; Code_IPC: SOT23-5; ComponentLink1Description: LM3724 Datasheet; ComponentLink1URL: http://www.national.com/ds/LM/LM3724.pdf; ComponentLink2Description: LM3724 Web Page; ComponentLink2URL: http://www.national.com/pf/LM/LM3724.html; ComponentLink3Description: MF05A Package Page; ComponentLink3URL: http://www.national.com/packaging/folders/mf05a.html
footprint MF05A_N (SOT23, 5-Leads, Body 2.9x1.6mm, Pitch 0.95mm, Lead Span 2.8mm, IPC Medium Density)
footprint MF05A_L (SOT23, 5-Leads, Body 2.9x1.6mm, Pitch 0.95mm, Lead Span 2.8mm, IPC High Density)
footprint MF05A_M (SOT23, 5-Leads, Body 2.9x1.6mm, Pitch 0.95mm, Lead Span 2.8mm, IPC Low Density)
pins: 1 GND (power), 2 GND (power), 3 ~{RESET} (oc), 4 ~{MR} (in), 5 VCC (power)

## LM3724IM5-3.08
designator U?
5-Pin Microprocessor Reset Circuits; PartNumber: LM3724IM5-3.08; Manufacturer: National Semiconductor; CompType: MiscPower; PackageTopMarking: R53B*XTT; Published: 4-Dec-2008; DatasheetVersion: Jul-2007; PackageVersion: revD, Aug-2008; PackageReference: MF05A; Publisher: Altium Limited; PackageDescription: Molded SOT-23, .115 x .063 x .040 in Body, 5 Lead, .0375 in Pitch; RoHS: Y; PinCount: 5; DigiKeyPartNumber: LM3724IM5-3.08CT-ND; Code_IPC: SOT23-5; ComponentLink1Description: LM3724 Datasheet; ComponentLink1URL: http://www.national.com/ds/LM/LM3724.pdf; ComponentLink2Description: LM3724 Web Page; ComponentLink2URL: http://www.national.com/pf/LM/LM3724.html; ComponentLink3Description: MF05A Package Page; ComponentLink3URL: http://www.national.com/packaging/folders/mf05a.html
footprint MF05A_N (SOT23, 5-Leads, Body 2.9x1.6mm, Pitch 0.95mm, Lead Span 2.8mm, IPC Medium Density)
footprint MF05A_L (SOT23, 5-Leads, Body 2.9x1.6mm, Pitch 0.95mm, Lead Span 2.8mm, IPC High Density)
footprint MF05A_M (SOT23, 5-Leads, Body 2.9x1.6mm, Pitch 0.95mm, Lead Span 2.8mm, IPC Low Density)
pins: 1 GND (power), 2 GND (power), 3 ~{RESET} (oc), 4 ~{MR} (in), 5 VCC (power)

## LM3724IM5-4.63
designator U?
5-Pin Microprocessor Reset Circuits; PartNumber: LM3724IM5-4.63; Manufacturer: National Semiconductor; CompType: MiscPower; PackageTopMarking: R55B*XTT; Published: 4-Dec-2008; DatasheetVersion: Jul-2007; PackageVersion: revD, Aug-2008; PackageReference: MF05A; Publisher: Altium Limited; PackageDescription: Molded SOT-23, .115 x .063 x .040 in Body, 5 Lead, .0375 in Pitch; RoHS: Y; PinCount: 5; DigiKeyPartNumber: LM3724IM5-4.63CT-ND; Code_IPC: SOT23-5; ComponentLink1Description: LM3724 Datasheet; ComponentLink1URL: http://www.national.com/ds/LM/LM3724.pdf; ComponentLink2Description: LM3724 Web Page; ComponentLink2URL: http://www.national.com/pf/LM/LM3724.html; ComponentLink3Description: MF05A Package Page; ComponentLink3URL: http://www.national.com/packaging/folders/mf05a.html
footprint MF05A_N (SOT23, 5-Leads, Body 2.9x1.6mm, Pitch 0.95mm, Lead Span 2.8mm, IPC Medium Density)
footprint MF05A_L (SOT23, 5-Leads, Body 2.9x1.6mm, Pitch 0.95mm, Lead Span 2.8mm, IPC High Density)
footprint MF05A_M (SOT23, 5-Leads, Body 2.9x1.6mm, Pitch 0.95mm, Lead Span 2.8mm, IPC Low Density)
pins: 1 GND (power), 2 GND (power), 3 ~{RESET} (oc), 4 ~{MR} (in), 5 VCC (power)

## LM3812M-1.0
designator U?
Precision Current Gauge IC with Ultra-Low Loss Sense Element and PWM Output, for High-Side Sensing; PartNumber: LM3812M-1.0; Manufacturer: National Semiconductor; CompType: MiscPower; PackageTopMarking: NSZXTT*3812*M-1.0; Published: 4-Dec-2008; DatasheetVersion: Feb-2005; PackageVersion: revL, Sep-2006; PackageReference: M08A; Publisher: Altium Limited; PackageDescription: SOIC Narrow, 4.9 x 3.9 x 1.45mm, 8 Lead, 1.27mm Pitch; RoHS: Y; PinCount: 8; DigiKeyPartNumber: LM3812M-1.0-ND; Code_JEDEC: MS-012-AA; Code_IPC: SOIC127P600-8; ComponentLink1Description: LM3812 Datasheet; ComponentLink1URL: http://www.national.com/ds/LM/LM3812.pdf; ComponentLink2Description: LM3812 Web Page; ComponentLink2URL: http://www.national.com/pf/LM/LM3812.html; ComponentLink3Description: M08A Package Page; ComponentLink3URL: http://www.national.com/packaging/folders/m08a.html
footprint M08A_N (SOIC, 8-Leads, Body 4.9x3.9mm, Pitch 1.27mm, IPC Medium Density)
footprint M08A_L (SOIC, 8-Leads, Body 4.9x3.9mm, Pitch 1.27mm, IPC High Density)
footprint M08A_M (SOIC, 8-Leads, Body 4.9x3.9mm, Pitch 1.27mm, IPC Low Density)
pins: 1 VDD SEN+ (power), 2 SEN- (in), 3 FLTR+ (in), 4 FLTR- (in), 5 ~{SD} (in), 6 PWM (out), 7 GND (power), 8 GND (power)

## LM3812M-7.0
designator U?
Precision Current Gauge IC with Ultra-Low Loss Sense Element and PWM Output, for High-Side Sensing; PartNumber: LM3812M-7.0; Manufacturer: National Semiconductor; CompType: MiscPower; PackageTopMarking: NSZXTT*3812*M-7.0; Published: 4-Dec-2008; DatasheetVersion: Feb-2005; PackageVersion: revL, Sep-2006; PackageReference: M08A; Publisher: Altium Limited; PackageDescription: SOIC Narrow, 4.9 x 3.9 x 1.45mm, 8 Lead, 1.27mm Pitch; RoHS: Y; PinCount: 8; DigiKeyPartNumber: LM3812M-7.0-ND; Code_JEDEC: MS-012-AA; Code_IPC: SOIC127P600-8; ComponentLink1Description: LM3812 Datasheet; ComponentLink1URL: http://www.national.com/ds/LM/LM3812.pdf; ComponentLink2Description: LM3812 Web Page; ComponentLink2URL: http://www.national.com/pf/LM/LM3812.html; ComponentLink3Description: M08A Package Page; ComponentLink3URL: http://www.national.com/packaging/folders/m08a.html
footprint M08A_N (SOIC, 8-Leads, Body 4.9x3.9mm, Pitch 1.27mm, IPC Medium Density)
footprint M08A_L (SOIC, 8-Leads, Body 4.9x3.9mm, Pitch 1.27mm, IPC High Density)
footprint M08A_M (SOIC, 8-Leads, Body 4.9x3.9mm, Pitch 1.27mm, IPC Low Density)
pins: 1 VDD SEN+ (power), 2 SEN- (in), 3 FLTR+ (in), 4 FLTR- (in), 5 ~{SD} (in), 6 PWM (out), 7 GND (power), 8 GND (power)

## LM3813M-1.0
designator U?
Precision Current Gauge IC with Ultra Low Loss Sense Element and PWM Output, for Low-Side Sensing; PartNumber: LM3813M-1.0; Manufacturer: National Semiconductor; CompType: MiscPower; PackageTopMarking: NSZXTT*3813*M-1.0; Published: 4-Dec-2008; DatasheetVersion: Feb-2005; PackageVersion: revL, Sep-2006; PackageReference: M08A; Publisher: Altium Limited; PackageDescription: SOIC Narrow, 4.9 x 3.9 x 1.45mm, 8 Lead, 1.27mm Pitch; RoHS: Y; PinCount: 8; DigiKeyPartNumber: LM3813M-1.0-ND; Code_JEDEC: MS-012-AA; Code_IPC: SOIC127P600-8; ComponentLink1Description: LM3813 Datasheet; ComponentLink1URL: http://www.national.com/ds/LM/LM3813.pdf; ComponentLink2Description: LM3813 Web Page; ComponentLink2URL: http://www.national.com/pf/LM/LM3813.html; ComponentLink3Description: M08A Package Page; ComponentLink3URL: http://www.national.com/packaging/folders/m08a.html
footprint M08A_N (SOIC, 8-Leads, Body 4.9x3.9mm, Pitch 1.27mm, IPC Medium Density)
footprint M08A_L (SOIC, 8-Leads, Body 4.9x3.9mm, Pitch 1.27mm, IPC High Density)
footprint M08A_M (SOIC, 8-Leads, Body 4.9x3.9mm, Pitch 1.27mm, IPC Low Density)
pins: 1 SEN+ GND (power), 2 SEN- (in), 3 FLTR+ (in), 4 FLTR- (in), 5 ~{SD} (in), 6 PWM (out), 7 GND (power), 8 VDD (power)

## LM3813M-7.0
designator U?
Precision Current Gauge IC with Ultra Low Loss Sense Element and PWM Output, for Low-Side Sensing; PartNumber: LM3813M-7.0; Manufacturer: National Semiconductor; CompType: MiscPower; PackageTopMarking: NSZXTT*3813*M-7.0; Published: 4-Dec-2008; DatasheetVersion: Feb-2005; PackageVersion: revL, Sep-2006; PackageReference: M08A; Publisher: Altium Limited; PackageDescription: SOIC Narrow, 4.9 x 3.9 x 1.45mm, 8 Lead, 1.27mm Pitch; RoHS: Y; PinCount: 8; DigiKeyPartNumber: LM3813M-7.0-ND; Code_JEDEC: MS-012-AA; Code_IPC: SOIC127P600-8; ComponentLink1Description: LM3813 Datasheet; ComponentLink1URL: http://www.national.com/ds/LM/LM3813.pdf; ComponentLink2Description: LM3813 Web Page; ComponentLink2URL: http://www.national.com/pf/LM/LM3813.html; ComponentLink3Description: M08A Package Page; ComponentLink3URL: http://www.national.com/packaging/folders/m08a.html
footprint M08A_N (SOIC, 8-Leads, Body 4.9x3.9mm, Pitch 1.27mm, IPC Medium Density)
footprint M08A_L (SOIC, 8-Leads, Body 4.9x3.9mm, Pitch 1.27mm, IPC High Density)
footprint M08A_M (SOIC, 8-Leads, Body 4.9x3.9mm, Pitch 1.27mm, IPC Low Density)
pins: 1 SEN+ GND (power), 2 SEN- (in), 3 FLTR+ (in), 4 FLTR- (in), 5 ~{SD} (in), 6 PWM (out), 7 GND (power), 8 VDD (power)

## LM3814M-1.0
designator U?
Fast Current Gauge IC with Ultra-Low Loss Sense Element and PWM Output, for High-Side Sensing; PartNumber: LM3814M-1.0; Manufacturer: National Semiconductor; CompType: MiscPower; PackageTopMarking: NSZXTT*3814*M-1.0; Published: 4-Dec-2008; DatasheetVersion: Feb-2005; PackageVersion: revL, Sep-2006; PackageReference: M08A; Publisher: Altium Limited; PackageDescription: SOIC Narrow, 4.9 x 3.9 x 1.45mm, 8 Lead, 1.27mm Pitch; RoHS: Y; PinCount: 8; DigiKeyPartNumber: LM3814M-1.0-ND; Code_JEDEC: MS-012-AA; Code_IPC: SOIC127P600-8; ComponentLink1Description: LM3814 Datasheet; ComponentLink1URL: http://www.national.com/ds/LM/LM3814.pdf; ComponentLink2Description: LM3814 Web Page; ComponentLink2URL: http://www.national.com/pf/LM/LM3814.html; ComponentLink3Description: M08A Package Page; ComponentLink3URL: http://www.national.com/packaging/folders/m08a.html
footprint M08A_N (SOIC, 8-Leads, Body 4.9x3.9mm, Pitch 1.27mm, IPC Medium Density)
footprint M08A_L (SOIC, 8-Leads, Body 4.9x3.9mm, Pitch 1.27mm, IPC High Density)
footprint M08A_M (SOIC, 8-Leads, Body 4.9x3.9mm, Pitch 1.27mm, IPC Low Density)
pins: 1 VDD SEN+ (power), 2 SEN- (in), 3 FLTR+ (in), 4 FLTR- (in), 5 ~{SD} (in), 6 PWM (out), 7 GND (power), 8 GND (power)

## LM3815M-1.0
designator U?
Fast Current Gauge IC with Ultra Low Loss Sense Element and PWM Output, for Low-Side Sensing; PartNumber: LM3815M-1.0; Manufacturer: National Semiconductor; CompType: MiscPower; PackageTopMarking: NSZXTT*3815*M-1.0; Published: 4-Dec-2008; DatasheetVersion: Feb-2005; PackageVersion: revL, Sep-2006; PackageReference: M08A; Publisher: Altium Limited; PackageDescription: SOIC Narrow, 4.9 x 3.9 x 1.45mm, 8 Lead, 1.27mm Pitch; RoHS: Y; PinCount: 8; DigiKeyPartNumber: LM3815M-1.0-ND; Code_JEDEC: MS-012-AA; Code_IPC: SOIC127P600-8; ComponentLink1Description: LM3815 Datasheet; ComponentLink1URL: http://www.national.com/ds/LM/LM3815.pdf; ComponentLink2Description: LM3815 Web Page; ComponentLink2URL: http://www.national.com/pf/LM/LM3815.html; ComponentLink3Description: M08A Package Page; ComponentLink3URL: http://www.national.com/packaging/folders/m08a.html
footprint M08A_N (SOIC, 8-Leads, Body 4.9x3.9mm, Pitch 1.27mm, IPC Medium Density)
footprint M08A_L (SOIC, 8-Leads, Body 4.9x3.9mm, Pitch 1.27mm, IPC High Density)
footprint M08A_M (SOIC, 8-Leads, Body 4.9x3.9mm, Pitch 1.27mm, IPC Low Density)
pins: 1 SEN+ GND (power), 2 SEN- (in), 3 FLTR+ (in), 4 FLTR- (in), 5 ~{SD} (in), 6 PWM (out), 7 GND (power), 8 VDD (power)

## LM3815M-7.0
designator U?
Fast Current Gauge IC with Ultra Low Loss Sense Element and PWM Output, for Low-Side Sensing; PartNumber: LM3815M-7.0; Manufacturer: National Semiconductor; CompType: MiscPower; PackageTopMarking: NSZXTT*3815*M-7.0; Published: 4-Dec-2008; DatasheetVersion: Feb-2005; PackageVersion: revL, Sep-2006; PackageReference: M08A; Publisher: Altium Limited; PackageDescription: SOIC Narrow, 4.9 x 3.9 x 1.45mm, 8 Lead, 1.27mm Pitch; RoHS: Y; PinCount: 8; DigiKeyPartNumber: LM3815M-7.0-ND; Code_JEDEC: MS-012-AA; Code_IPC: SOIC127P600-8; ComponentLink1Description: LM3815 Datasheet; ComponentLink1URL: http://www.national.com/ds/LM/LM3815.pdf; ComponentLink2Description: LM3815 Web Page; ComponentLink2URL: http://www.national.com/pf/LM/LM3815.html; ComponentLink3Description: M08A Package Page; ComponentLink3URL: http://www.national.com/packaging/folders/m08a.html
footprint M08A_N (SOIC, 8-Leads, Body 4.9x3.9mm, Pitch 1.27mm, IPC Medium Density)
footprint M08A_L (SOIC, 8-Leads, Body 4.9x3.9mm, Pitch 1.27mm, IPC High Density)
footprint M08A_M (SOIC, 8-Leads, Body 4.9x3.9mm, Pitch 1.27mm, IPC Low Density)
pins: 1 SEN+ GND (power), 2 SEN- (in), 3 FLTR+ (in), 4 FLTR- (in), 5 ~{SD} (in), 6 PWM (out), 7 GND (power), 8 VDD (power)